# EAGLE library part DMC-20481 (library Optrex)
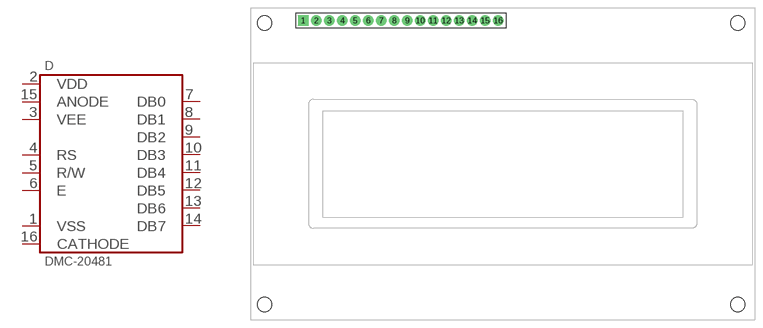
[diagram p0: symbol with the pads of DMC-20481; footprint DMC-20481]

Designator prefix D

## DMC-20481  [DMC-20481]
1  VSS
2  VDD
3  VEE
4  RS
5  R/W
6  E
7  DB0
8  DB1
9  DB2
10  DB3
11  DB4
12  DB5
13  DB6
14  DB7
15  ANODE
16  CATHODE

## Footprint DMC-20481 (pad centres in mm)
drill 1 pad 2 square: 1 -39,28
drill 1 pad 2: 2 -36.46,28; 3 -33.92,28; 4 -31.38,28; 5 -28.84,28; 6 -26.3,28; 7 -23.76,28; 8 -21.22,28; 9 -18.68,28; 10 -16.14,28; 11 -13.6,28; 12 -11.06,28; 13 -8.52,28; 14 -5.98,28; 15 -3.44,28; 16 -0.9,28
hole 2.8 at 45.95,-27.5
hole 2.8 at -46.55,27.5
hole 2.8 at -46.55,-27.5
hole 2.8 at 45.95,27.5